# EAGLE library part TMPM370FYFG (library TOSHIBA)
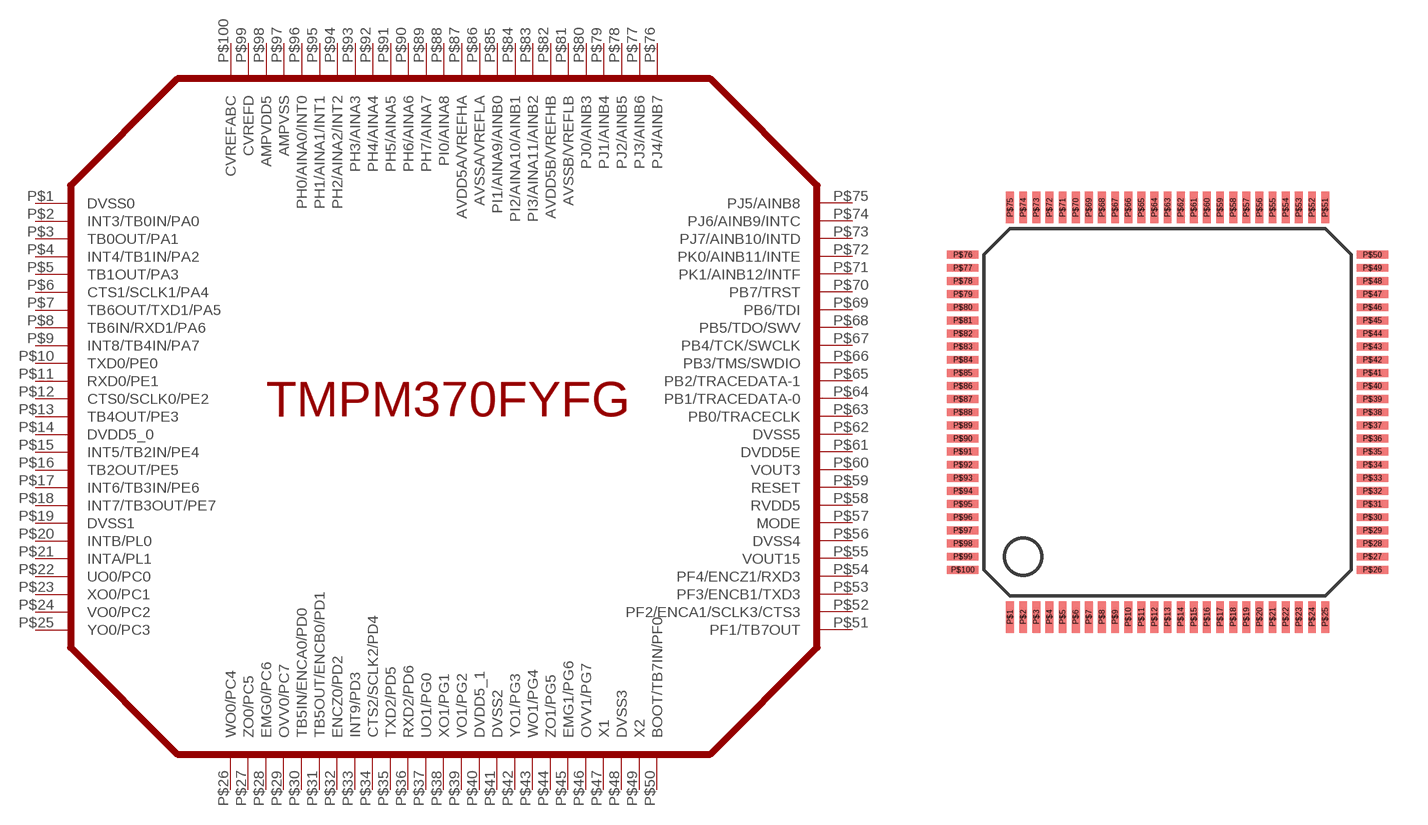
[diagram p0: symbol with the pads of LQFP100-P-1414-0.50H; footprint LQFP100-P-1414-0.50H]

Designator prefix IC

## TMPM370FYFG  [LQFP100-P-1414-0.50H]
P$1  DVSS0
P$2  INT3/TB0IN/PA0
P$3  TB0OUT/PA1
P$4  INT4/TB1IN/PA2
P$5  TB1OUT/PA3
P$6  CTS1/SCLK1/PA4
P$7  TB6OUT/TXD1/PA5
P$8  TB6IN/RXD1/PA6
P$9  INT8/TB4IN/PA7
P$10  TXD0/PE0
P$11  RXD0/PE1
P$12  CTS0/SCLK0/PE2
P$13  TB4OUT/PE3
P$14  DVDD5_0
P$15  INT5/TB2IN/PE4
P$16  TB2OUT/PE5
P$17  INT6/TB3IN/PE6
P$18  INT7/TB3OUT/PE7
P$19  DVSS1
P$20  INTB/PL0
P$21  INTA/PL1
P$22  UO0/PC0
P$23  XO0/PC1
P$24  VO0/PC2
P$25  YO0/PC3
P$26  WO0/PC4
P$27  ZO0/PC5
P$28  EMG0/PC6
P$29  OVV0/PC7
P$30  TB5IN/ENCA0/PD0
P$31  TB5OUT/ENCB0/PD1
P$32  ENCZ0/PD2
P$33  INT9/PD3
P$34  CTS2/SCLK2/PD4
P$35  TXD2/PD5
P$36  RXD2/PD6
P$37  UO1/PG0
P$38  XO1/PG1
P$39  VO1/PG2
P$40  DVDD5_1
P$41  DVSS2
P$42  YO1/PG3
P$43  WO1/PG4
P$44  ZO1/PG5
P$45  EMG1/PG6
P$46  OVV1/PG7
P$47  X1
P$48  DVSS3
P$49  X2
P$50  BOOT/TB7IN/PF0
P$51  PF1/TB7OUT
P$52  PF2/ENCA1/SCLK3/CTS3
P$53  PF3/ENCB1/TXD3
P$54  PF4/ENCZ1/RXD3
P$55  VOUT15
P$56  DVSS4
P$57  MODE
P$58  RVDD5
P$59  RESET
P$60  VOUT3
P$61  DVDD5E
P$62  DVSS5
P$63  PB0/TRACECLK
P$64  PB1/TRACEDATA-0
P$65  PB2/TRACEDATA-1
P$66  PB3/TMS/SWDIO
P$67  PB4/TCK/SWCLK
P$68  PB5/TDO/SWV
P$69  PB6/TDI
P$70  PB7/TRST
P$71  PK1/AINB12/INTF
P$72  PK0/AINB11/INTE
P$73  PJ7/AINB10/INTD
P$74  PJ6/AINB9/INTC
P$75  PJ5/AINB8
P$76  PJ4/AINB7
P$77  PJ3/AINB6
P$78  PJ2/AINB5
P$79  PJ1/AINB4
P$80  PJ0/AINB3
P$81  AVSSB/VREFLB
P$82  AVDD5B/VREFHB
P$83  PI3/AINA11/AINB2
P$84  PI2/AINA10/AINB1
P$85  PI1/AINA9/AINB0
P$86  AVSSA/VREFLA
P$87  AVDD5A/VREFHA
P$88  PI0/AINA8
P$89  PH7/AINA7
P$90  PH6/AINA6
P$91  PH5/AINA5
P$92  PH4/AINA4
P$93  PH3/AINA3
P$94  PH2/AINA2/INT2
P$95  PH1/AINA1/INT1
P$96  PH0/AINA0/INT0
P$97  AMPVSS
P$98  AMPVDD5
P$99  CVREFD
P$100  CVREFABC

## Footprint LQFP100-P-1414-0.50H (pad centres in mm)
smd 0.3 x 1.2: P$1 -6,-7.8; P$2 -5.5,-7.8; P$3 -5,-7.8; P$4 -4.5,-7.8; P$5 -4,-7.8; P$6 -3.5,-7.8; P$7 -3,-7.8; P$8 -2.5,-7.8; P$9 -2,-7.8; P$10 -1.5,-7.8; P$11 -1,-7.8; P$12 -0.5,-7.8; P$13 0,-7.8; P$14 0.5,-7.8; P$15 1,-7.8; P$16 1.5,-7.8; P$17 2,-7.8; P$18 2.5,-7.8; P$19 3,-7.8; P$20 3.5,-7.8; P$21 4,-7.8; P$22 4.5,-7.8; P$23 5,-7.8; P$24 5.5,-7.8; P$25 6,-7.8; P$51 6,7.8; P$52 5.5,7.8; P$53 5,7.8; P$54 4.5,7.8; P$55 4,7.8; P$56 3.5,7.8; P$57 3,7.8; P$58 2.5,7.8; P$59 2,7.8; P$60 1.5,7.8; P$61 1,7.8; P$62 0.5,7.8; P$63 0,7.8; P$64 -0.5,7.8; P$65 -1,7.8; P$66 -1.5,7.8; P$67 -2,7.8; P$68 -2.5,7.8; P$69 -3,7.8; P$70 -3.5,7.8; P$71 -4,7.8; P$72 -4.5,7.8; P$73 -5,7.8; P$74 -5.5,7.8; P$75 -6,7.8
smd 1.2 x 0.3: P$26 7.8,-6; P$27 7.8,-5.5; P$28 7.8,-5; P$29 7.8,-4.5; P$30 7.8,-4; P$31 7.8,-3.5; P$32 7.8,-3; P$33 7.8,-2.5; P$34 7.8,-2; P$35 7.8,-1.5; P$36 7.8,-1; P$37 7.8,-0.5; P$38 7.8,0; P$39 7.8,0.5; P$40 7.8,1; P$41 7.8,1.5; P$42 7.8,2; P$43 7.8,2.5; P$44 7.8,3; P$45 7.8,3.5; P$46 7.8,4; P$47 7.8,4.5; P$48 7.8,5; P$49 7.8,5.5; P$50 7.8,6; P$76 -7.8,6; P$77 -7.8,5.5; P$78 -7.8,5; P$79 -7.8,4.5; P$80 -7.8,4; P$81 -7.8,3.5; P$82 -7.8,3; P$83 -7.8,2.5; P$84 -7.8,2; P$85 -7.8,1.5; P$86 -7.8,1; P$87 -7.8,0.5; P$88 -7.8,0; P$89 -7.8,-0.5; P$90 -7.8,-1; P$91 -7.8,-1.5; P$92 -7.8,-2; P$93 -7.8,-2.5; P$94 -7.8,-3; P$95 -7.8,-3.5; P$96 -7.8,-4; P$97 -7.8,-4.5; P$98 -7.8,-5; P$99 -7.8,-5.5; P$100 -7.8,-6